# Altium footprint library pinos.PcbLib: 1 footprints
Each footprint in its own frame and in the unit in brackets; x right, y up, seen from the top. Pads: shape width x height; smd on the part's side, far side on the other; paste and mask are expansions set on the pad; w line width, h text height; cw(c..) or ccw(c..) is an arc to the next point about the centre after c.
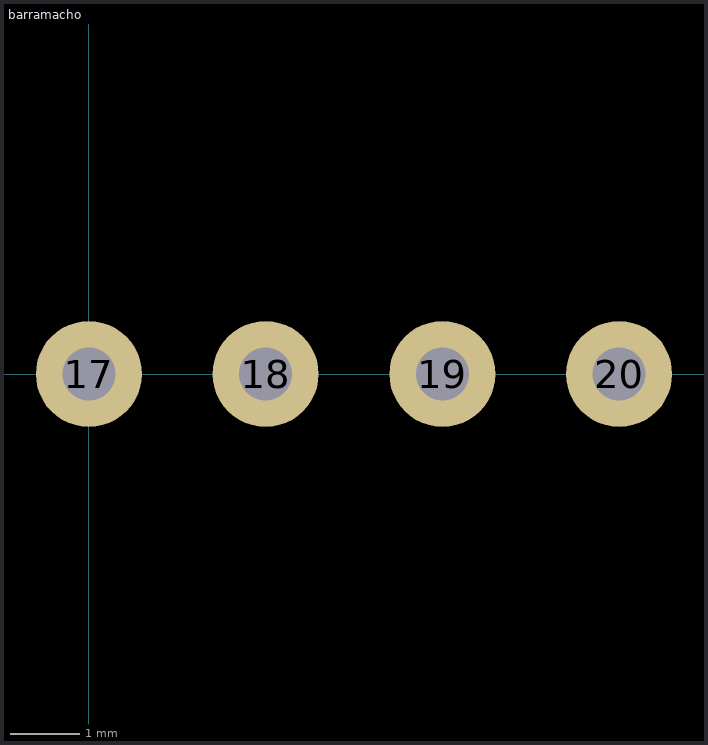
[diagram p0: the footprint, top view; thin cyan lines are the x and y axes]

## barramacho [mil]
pads (4):
  round 60 hole 30: 17(0,0) 18(100,0) 19(200,0) 20(300,0)
3D body "pin_header_ap_126-04_g-a.stp": height 161.91, standoff -121.55, extent -50,-50 350,48.43
3D body: height 400, standoff -400, extent 145,35 145,35